# Altium footprint library Lib_murata.PcbLib: 1 footprints
Each footprint in its own frame and in the unit in brackets; x right, y up, seen from the top. Pads: shape width x height; smd on the part's side, far side on the other; paste and mask are expansions set on the pad; w line width, h text height; cw(c..) or ccw(c..) is an arc to the next point about the centre after c.
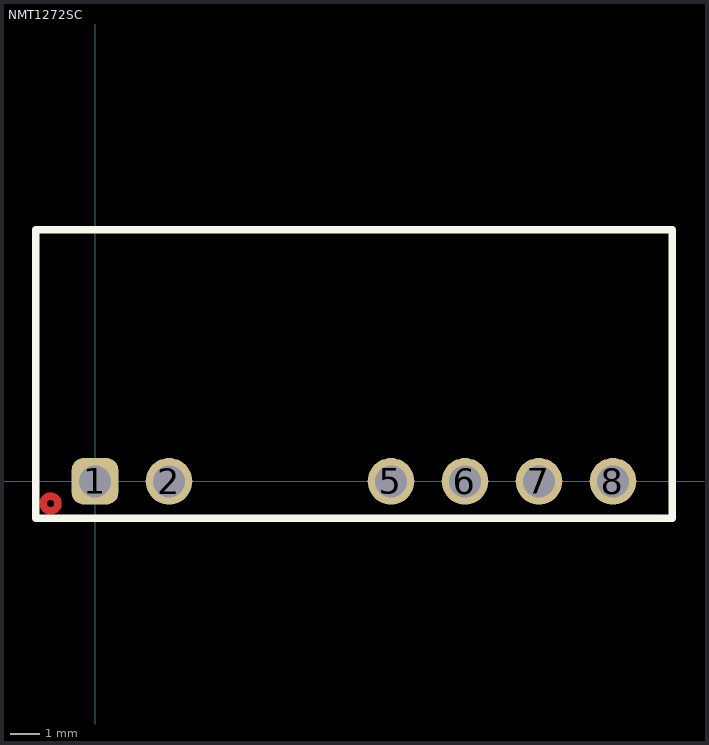
[diagram p0: the footprint, top view; thin cyan lines are the x and y axes]

## NMT1272SC [mm]
pads (6):
  rrect50% 1.6x1.6 hole 1.1: 1(0,0)
  round 1.6 hole 1.1: 2(2.54,0) 5(10.16,0) 6(12.7,0) 7(15.24,0) 8(17.78,0)
Top Layer:
  circle w0.254: c-1.524,-0.762 r0.254
Top Overlay:
  lines w0.254: -2.032,-1.27 -2.032,8.636 19.812,8.636 19.812,-1.27 -2.032,-1.27
3D body: height 11, standoff 0, extent -2.032,-1.27 19.812,8.636